# EAGLE library part AZ4558C (library PP_AnalogIC)
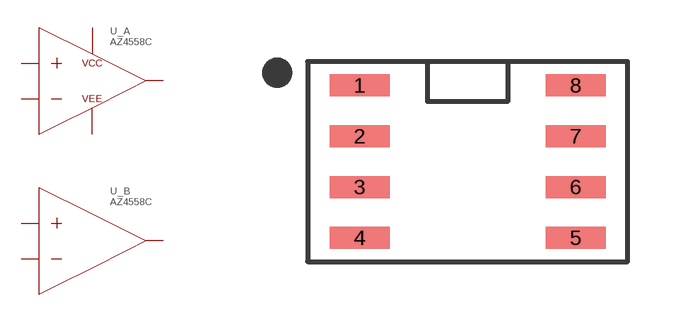
[diagram p10: symbol with the pads of AZ4558C_SOIC-8; footprint AZ4558C_SOIC-8]

Designator prefix U; gates _A=AZ4558C_A _B=AZ4558C_B

## AZ4558C  [AZ4558C_SOIC-8]
1  _A:OUTPUT_1
2  _A:INPUT_1-
3  _A:INPUT_1+
4  _A:VEE
5  _B:INPUT_2+
6  _B:INPUT_2-
7  _B:OUTPUT_2
8  _A:VCC

## Footprint AZ4558C_SOIC-8 (pad centres in mm)
smd 1.5 x 0.55: 1 -2.7,1.905; 2 -2.7,0.635; 3 -2.7,-0.635; 4 -2.7,-1.905; 5 2.7,-1.905; 6 2.7,-0.635; 7 2.7,0.635; 8 2.7,1.905